# Altium footprint library F429_F746_F767_MB.PcbLib: 52 footprints (part 3 of 4)
Each footprint in its own frame and in the unit in brackets; x right, y up, seen from the top. Pads: shape width x height; smd on the part's side, far side on the other; paste and mask are expansions set on the pad; w line width, h text height; cw(c..) or ccw(c..) is an arc to the next point about the centre after c.
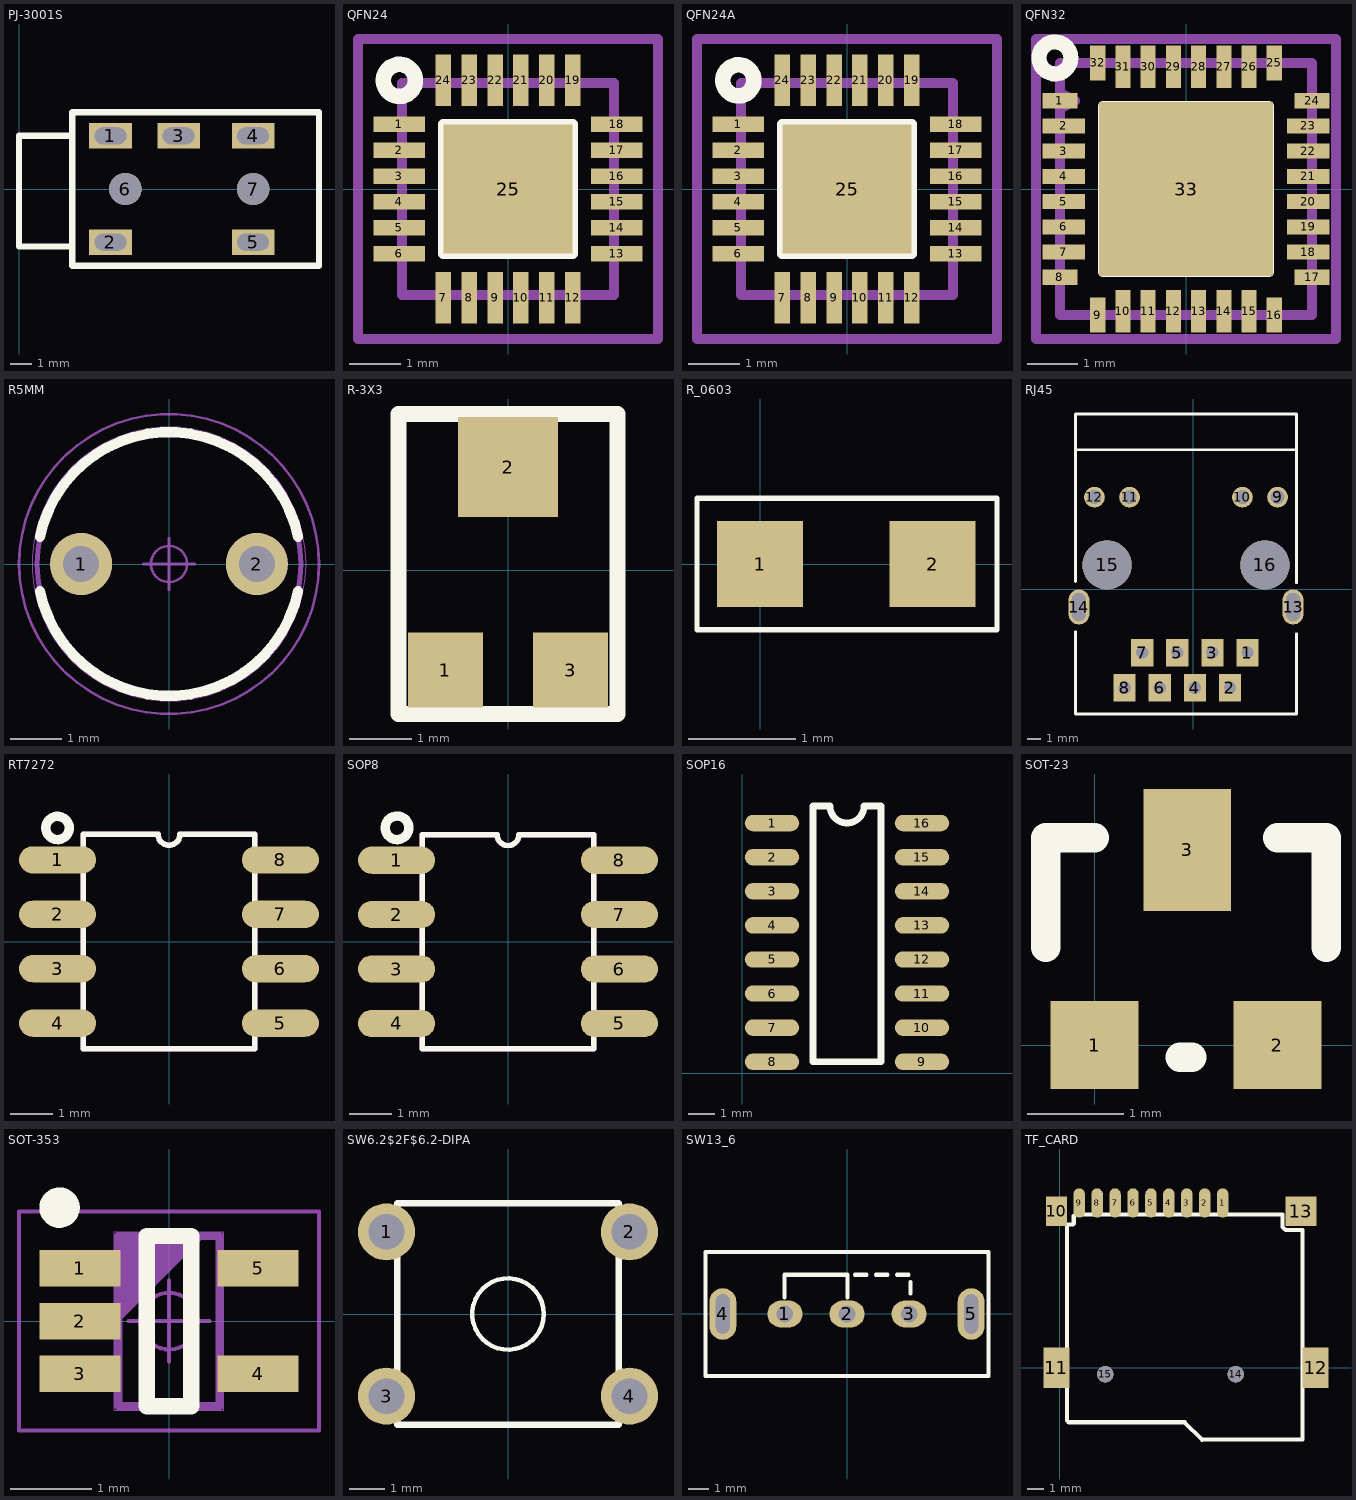
[diagram p2: the footprints below, top view; thin cyan lines are the x and y axes]

## PJ-3001S [mm]
pads (7):
  rect 2x1.2 hole 0.787 slot 1.499 at 0 deg: 1(4.3,2.5) 2(4.3,-2.5) 3(7.5,2.5) 4(11,2.5) 5(11,-2.5)
  round 1.524 hole 1.524 unplated: 6(5,0) 7(11,0)
Top Overlay:
  lines w0.3: 0,-2.7 0,2.5 2.5,2.5 ; 0.1,-2.7 2.5,-2.7 ; 2.5,-3.6 14.1,-3.6 14.1,3.6 2.5,3.6 2.5,-3.6

## QFN24 [mm]
height 1.27
pads (25):
  rect 1x0.3 smd: 1(-2.1,1.25) 2(-2.1,0.75) 3(-2.1,0.25) 4(-2.1,-0.25) 5(-2.1,-0.75) 6(-2.1,-1.25) 13(2.1,-1.25) 14(2.1,-0.75) 15(2.1,-0.25) 16(2.1,0.25) 17(2.1,0.75) 18(2.1,1.25)
  rect 0.3x1 smd: 7(-1.25,-2.1) 8(-0.75,-2.1) 9(-0.25,-2.1) 10(0.25,-2.1) 11(0.75,-2.1) 12(1.25,-2.1) 19(1.25,2.1) 20(0.75,2.1) 21(0.25,2.1) 22(-0.25,2.1) 23(-0.75,2.1) 24(-1.25,2.1)
  rect 2.5x2.5 smd: 25(0,0)
Top Overlay:
  circle w0.3: c-2.1,2.1 r0.31
  lines w0.2: -1.25,-1.25 1.25,-1.25 1.25,1.25 -1.25,1.25 -1.25,-1.25
Mechanical 1:
  lines w0.2: -2.05,-2.05 2.05,-2.05 2.05,2.05 -2.05,2.05 -2.05,-2.05
Mechanical 16:
  lines w0.2: -0.5,0 0,0 ; 0,-0.5 0,0 ; 0,0.5 0,0 ; 0.5,0 0,0 ; -2.9,-2.9 2.9,-2.9 2.9,2.9 -2.9,2.9 -2.9,-2.9

## QFN24A [mm]
height 1.27
pads (25):
  rect 1x0.3 smd: 1(-2.1,1.25) 2(-2.1,0.75) 3(-2.1,0.25) 4(-2.1,-0.25) 5(-2.1,-0.75) 6(-2.1,-1.25) 13(2.1,-1.25) 14(2.1,-0.75) 15(2.1,-0.25) 16(2.1,0.25) 17(2.1,0.75) 18(2.1,1.25)
  rect 0.3x1 smd: 7(-1.25,-2.1) 8(-0.75,-2.1) 9(-0.25,-2.1) 10(0.25,-2.1) 11(0.75,-2.1) 12(1.25,-2.1) 19(1.25,2.1) 20(0.75,2.1) 21(0.25,2.1) 22(-0.25,2.1) 23(-0.75,2.1) 24(-1.25,2.1)
  rect 2.5x2.5 smd: 25(0,0)
Top Overlay:
  circle w0.3: c-2.1,2.1 r0.3
  lines w0.2: -1.25,-1.25 1.25,-1.25 1.25,1.25 -1.25,1.25 -1.25,-1.25
Mechanical 1:
  lines w0.2: -2.05,-2.05 2.05,-2.05 2.05,2.05 -2.05,2.05 -2.05,-2.05
Mechanical 16:
  lines w0.2: -0.5,0 0,0 ; 0,-0.5 0,0 ; 0,0.5 0,0 ; 0.5,0 0,0 ; -2.9,-2.9 2.9,-2.9 2.9,2.9 -2.9,2.9 -2.9,-2.9

## QFN32 [mm]
height 1.27
pads (33):
  rect 0.7x0.3 smd: 1(-2.5,1.75) 8(-2.5,-1.75) 17(2.5,-1.75) 24(2.5,1.75)
  rect 0.85x0.3 smd: 2(-2.425,1.25) 3(-2.425,0.75) 4(-2.425,0.25) 5(-2.425,-0.25) 6(-2.425,-0.75) 7(-2.425,-1.25) 18(2.425,-1.25) 19(2.425,-0.75) 20(2.425,-0.25) 21(2.425,0.25) 22(2.425,0.75) 23(2.425,1.25)
  rect 0.3x0.7 smd: 9(-1.75,-2.5) 16(1.75,-2.5) 25(1.75,2.5) 32(-1.75,2.5)
  rect 0.3x0.85 smd: 10(-1.25,-2.425) 11(-0.75,-2.425) 12(-0.25,-2.425) 13(0.25,-2.425) 14(0.75,-2.425) 15(1.25,-2.425) 26(1.25,2.425) 27(0.75,2.425) 28(0.25,2.425) 29(-0.25,2.425) 30(-0.75,2.425) 31(-1.25,2.425)
  rect 3.45x3.45 smd: 33(0,0)
Top Overlay:
  circle w0.3: c-2.6,2.6 r0.316
  lines w0.2: -1.65,-1.65 1.65,-1.65 1.65,1.65 -1.65,1.65 -1.65,-1.65
Mechanical 1:
  lines w0.2: -2.5,-2.5 2.5,-2.5 2.5,2.5 -2.5,2.5 -2.5,1.9 -2.2,1.75 -2.5,1.6 -2.5,-2.5
Mechanical 16:
  lines w0.2: -0.5,0 0,0 ; 0,-0.5 0,0 ; 0,0.5 0,0 ; 0.5,0 0,0 ; -2.975,-2.975 2.975,-2.975 2.975,2.975 -2.975,2.975 -2.975,-2.975

## R5MM [mm]
height 2.4
pads (2):
  round 1.2 hole 0.7: 1(-1.7,0) 2(1.7,0)
Top Overlay:
  lines w0.2: -2.494,-0.53 ccw(c0,0) 2.494,-0.53 ; -2.494,0.53 cw(c0,0) 2.494,0.53
Mechanical 1:
  circle w0.1: c0,0 r2.55
  circle w0.1: c-1.7,0 r0.55
  circle w0.1: c1.7,0 r0.55
  text "D8" at -0.711,-0.502 h0.75
Mechanical 2:
  circle w0.1: c-1.7,0 r0.55
  circle w0.1: c1.7,0 r0.55
Mechanical 16:
  circle w0.001: c0,0 r2.65
  circle w0.05: c0,0 r2.9
  circle w0.05: c0,0 r0.35
  lines w0.05: -0.5,0 0.5,0 ; 0,-0.5 0,0.5

## R-3X3 [mm]
pads (3):
  rect 1.2x1.2 smd: 1(-1,-1.6) 3(1,-1.6)
  rect 1.6x1.6 smd: 2(0,1.65)
Top Overlay:
  lines w0.254: -1.75,2.5 -1.75,-2.3 1.75,-2.3 1.75,2.5 -1.7,2.5

## R_0603 [mm]
pads (2):
  rect 0.8x0.8 smd: 1(0,0) 2(1.6,0)
Top Overlay:
  lines w0.051: -0.584,-0.61 2.197,-0.61 2.197,0.61 -0.584,0.61 -0.584,-0.61

## RJ45 [mm]
pads (16):
  rect 1.6x2 hole 0.89: 1(3.942,-4.572) 2(2.672,-7.112) 3(1.402,-4.572) 4(0.132,-7.112) 5(-1.138,-4.572) 6(-2.408,-7.112) 7(-3.678,-4.572) 8(-4.948,-7.112)
  round 1.5 hole 1.02: 9(6.117,6.678) 10(3.577,6.678) 11(-4.593,6.678) 12(-7.133,6.678)
  oval 1.524x2.54 hole 1.016 slot 2.032 at 90 deg: 13(7.242,-1.272) 14(-8.258,-1.272)
  round 3.556 hole 3.556: 15(-6.223,1.778) 16(5.207,1.778)
Top Overlay:
  lines w0.2: -8.508,-3.069 -8.508,-9.017 7.492,-9.017 7.492,-3.2 ; -8.508,0.575 -8.508,12.698 7.492,12.698 7.492,0.481 ; -8.508,10.103 7.492,10.103

## RT7272 [mm]
pads (8):
  oval 1.8x0.635 smd: 1(-2.6,1.905) 2(-2.6,0.635) 3(-2.6,-0.635) 4(-2.6,-1.905) 5(2.6,-1.905) 6(2.6,-0.635) 7(2.6,0.635) 8(2.6,1.905)
Top Overlay:
  circle w0.22: c-2.6,2.65 r0.272
  lines w0.127: -2,-2.5 -2,2.5 -0.254,2.5 ccw(c0,2.5) 0.254,2.5 2,2.5 2,-2.5 -2,-2.5
Mechanical 1:
  lines w0.127: -2,-2.5 -2,2.5 -0.254,2.5 ccw(c0,2.5) 0.254,2.5 2,2.5 2,-2.5 -2,-2.5

## SOP8 [mm]
pads (8):
  oval 1.8x0.635 smd: 1(-2.6,1.905) 2(-2.6,0.635) 3(-2.6,-0.635) 4(-2.6,-1.905) 5(2.6,-1.905) 6(2.6,-0.635) 7(2.6,0.635) 8(2.6,1.905)
Top Overlay:
  circle w0.22: c-2.59,2.66 r0.276
  lines w0.127: -2,-2.5 -2,2.5 -0.254,2.5 ccw(c0,2.5) 0.254,2.5 2,2.5 2,-2.5 -2,-2.5
Mechanical 1:
  lines w0.127: -2,-2.5 -2,2.5 -0.254,2.5 ccw(c0,2.5) 0.254,2.5 2,2.5 2,-2.5 -2,-2.5

## SOP16 [mil]
pads (16):
  oval 80x24 smd: 1(44,367) 2(44,317) 3(44,267) 4(44,217) 5(44,167) 6(44,117) 7(44,67) 8(44,17) 9(264,17) 10(264,67) 11(264,117) 12(264,167) 13(264,217) 14(264,267) 15(264,317) 16(264,367)
Top Overlay:
  lines w10: 104,17 204,17 204,392 179,392 cw(c154,392) 129,392 104,392 104,17

## SOT-23 [mil]
pads (3):
  rect 36x36 smd: 1(0,0) 2(75,0)
  rect 36x50 smd: 3(38,80)
Top Overlay:
  lines w12: -20,40 -20,85 0,85 ; 35,-5 40,-5 ; 75,85 95,85 95,40

## SOT-353 [mm]
height 1.1
pads (5):
  rect 1x0.45 smd: 1(-1.1,0.65) 2(-1.1,0) 3(-1.1,-0.65) 4(1.1,-0.65) 5(1.1,0.65)
Top Overlay:
  circle w0.25: c-1.35,1.4 r0.125
  lines w0.2: -0.275,-1.05 0.275,-1.05 0.275,1.05 -0.275,1.05 -0.275,-1.05
Mechanical 1:
  lines w0.1: -0.625,0.05 0.375,1.05 ; -0.625,0.15 0.275,1.05 ; -0.625,0.25 0.175,1.05 ; -0.625,0.35 0.075,1.05 ; -0.625,0.45 -0.025,1.05 ; -0.625,0.55 -0.125,1.05 ; -0.625,0.65 -0.225,1.05 ; -0.625,0.75 -0.325,1.05 ; -0.625,0.85 -0.425,1.05 ; -0.625,0.95 -0.525,1.05 ; -0.625,-1.05 0.625,-1.05 0.625,1.05 -0.625,1.05 -0.625,-1.05
  text "U5" at 0.255,-0.384 h0.43
Mechanical 16:
  circle w0.05: c0,0 r0.35
  lines w0.001: -0.675,-1.1 0.675,-1.1 0.675,1.1 -0.675,1.1 -0.675,-1.1
  lines w0.05: -0.5,0 0.5,0 ; 0,-0.5 0,0.5 ; -1.85,-1.35 1.85,-1.35 1.85,1.35 -1.85,1.35 -1.85,-1.35

## SW6.2$2F$6.2-DIPA [mm]
pads (4):
  round 1.6 hole 1: 1(-3.4,2.3) 2(3.4,2.3) 3(-3.4,-2.3) 4(3.4,-2.3)
Top Overlay:
  circle w0.127: c0,0 r1
  lines w0.178: -3.1,-3.1 -3.1,3.1 3.1,3.1 3.1,-3.1 -3.1,-3.1

## SW13_6 [mm]
pads (5):
  oval 1.7x1.3 hole 0.8: 1(-3,0) 2(0,0) 3(3,0)
  oval 1.3x2.5 hole 0.686 slot 1.905 at 90 deg: 4(-6,0) 5(6,0)
Top Overlay:
  lines w0.203: -3.023,0.8 -3.023,1.9 0.025,1.9 0.025,0.8 ; 0.381,1.9 0.94,1.9 ; 1.397,1.9 1.956,1.9 ; 2.413,1.9 2.972,1.9 ; 3.073,0.984 3.073,1.543 ; -6.833,-3 6.833,-3 6.833,3 -6.833,3 -6.833,-3

## TF_CARD [mm]
pads (15):
  oval 0.7x1.8 smd: 1(10,10.1) 2(8.9,10.1) 3(7.8,10.1) 4(6.7,10.1) 5(5.6,10.1) 6(4.5,10.1) 7(3.4,10.1) 8(2.3,10.1) 9(1.2,10.1)
  rect 1.3x1.8 smd: 10(-0.2,9.6)
  rect 1.6x2.5 smd: 11(-0.2,0) 12(15.7,0)
  rect 1.9x1.8 smd: 13(14.8,9.6)
  round 1 hole 1: 14(10.8,-0.4) 15(2.8,-0.4)
Top Overlay:
  lines w0.254: 0.406,8.788 0.813,8.788 0.864,8.839 0.864,9.296 0.965,9.398 13.665,9.398 13.665,8.636 13.868,8.433 14.884,8.433 14.884,-4.4 8.738,-4.42 7.671,-3.353 0.559,-3.353 0.457,-3.251 0.457,8.738 0.406,8.788